# Altium footprint library 691 311 400 1xx.PcbLib: 6 footprints
Each footprint in its own frame and in the unit in brackets; x right, y up, seen from the top. Pads: shape width x height; smd on the part's side, far side on the other; paste and mask are expansions set on the pad; w line width, h text height; cw(c..) or ccw(c..) is an arc to the next point about the centre after c.
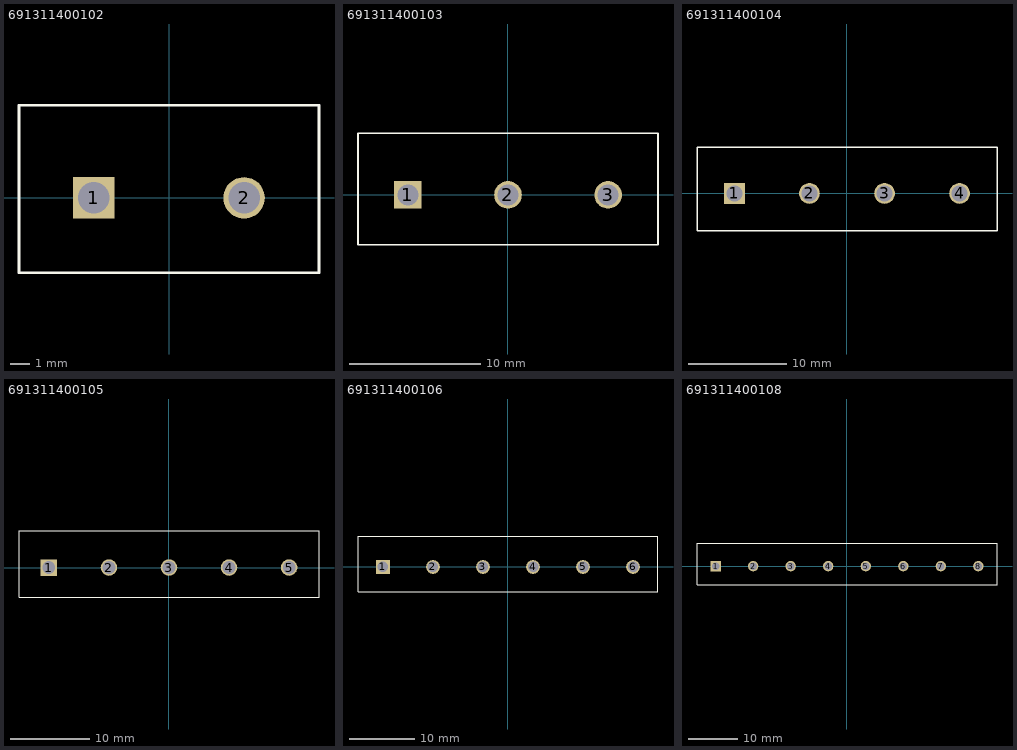
[diagram p0: the footprints below, top view; thin cyan lines are the x and y axes]

## 691311400102 [mm] "7.62 mm - Closed Vertical PCB Header - 2p"
height 12
pads (2):
  rect 2.1x2.1 hole 1.6: 1(-3.81,0)
  round 2.1 hole 1.6: 2(3.81,0)
Top Overlay:
  lines w0.127: -7.61,-3.8 7.61,-3.8 7.61,4.7 -7.61,4.7 -7.61,-3.8
3D body: height 12.01, standoff -3.99, extent -7.62,-3.81 7.62,4.69

## 691311400103 [mm] "7.62 mm - Closed Vertical PCB Header - 3p"
height 12
pads (3):
  rect 2.1x2.1 hole 1.6: 1(-7.62,0)
  round 2.1 hole 1.6: 2(0,0) 3(7.62,0)
Top Overlay:
  lines w0.127: -11.42,-3.8 -11.42,4.7 11.42,4.7 11.42,-3.8 -11.42,-3.8
3D body: height 12.01, standoff -3.99, extent -11.43,-3.81 11.43,4.69

## 691311400104 [mm] "7.62 mm - Closed Vertical PCB Header - 4p"
height 12
pads (4):
  rect 2.1x2.1 hole 1.6: 1(-11.43,0)
  round 2.1 hole 1.6: 2(-3.81,0) 3(3.81,0) 4(11.43,0)
Top Overlay:
  lines w0.127: -15.23,-3.8 -15.23,4.7 15.23,4.7 15.23,-3.8 -15.23,-3.8
3D body: height 12.01, standoff -3.99, extent -15.24,-3.8 15.24,4.7

## 691311400105 [mm] "7.62 mm - Closed Vertical PCB Header - 5p"
height 12
pads (5):
  rect 2.1x2.1 hole 1.6: 1(-15.24,0)
  round 2.1 hole 1.6: 2(-7.62,0) 3(0,0) 4(7.62,0) 5(15.24,0)
Top Overlay:
  lines w0.127: -19.04,-3.8 19.04,-3.8 19.04,4.7 -19.04,4.7 -19.04,-3.8
3D body: height 12.01, standoff -3.99, extent -19.05,-3.8 19.05,4.7

## 691311400106 [mm] "7.62 mm - Closed Vertical PCB Header - 6p"
height 12
pads (6):
  rect 2.1x2.1 hole 1.6: 1(-19.05,0)
  round 2.1 hole 1.6: 2(-11.43,0) 3(-3.81,0) 4(3.81,0) 5(11.43,0) 6(19.05,0)
Top Overlay:
  lines w0.127: -22.85,-3.8 -22.85,4.7 22.85,4.7 22.85,-3.8 -22.85,-3.8
3D body: height 12.01, standoff -3.99, extent -22.86,-3.8 22.86,4.7

## 691311400108 [mm] "7.62 mm - Closed Vertical PCB Header - 8p"
height 12
pads (8):
  rect 2.1x2.1 hole 1.6: 1(-26.67,0)
  round 2.1 hole 1.6: 2(-19.05,0) 3(-11.43,0) 4(-3.81,0) 5(3.81,0) 6(11.43,0) 7(19.05,0) 8(26.67,0)
Top Overlay:
  lines w0.127: -30.47,-3.8 30.47,-3.8 30.47,4.7 -30.47,4.7 -30.47,-3.8
3D body: height 12.01, standoff -3.99, extent -30.48,-3.8 30.48,4.7